# Altium footprint library nail_detector1.PcbLib: 33 footprints (part 3 of 3)
Each footprint in its own frame and in the unit in brackets; x right, y up, seen from the top. Pads: shape width x height; smd on the part's side, far side on the other; paste and mask are expansions set on the pad; w line width, h text height; cw(c..) or ccw(c..) is an arc to the next point about the centre after c.
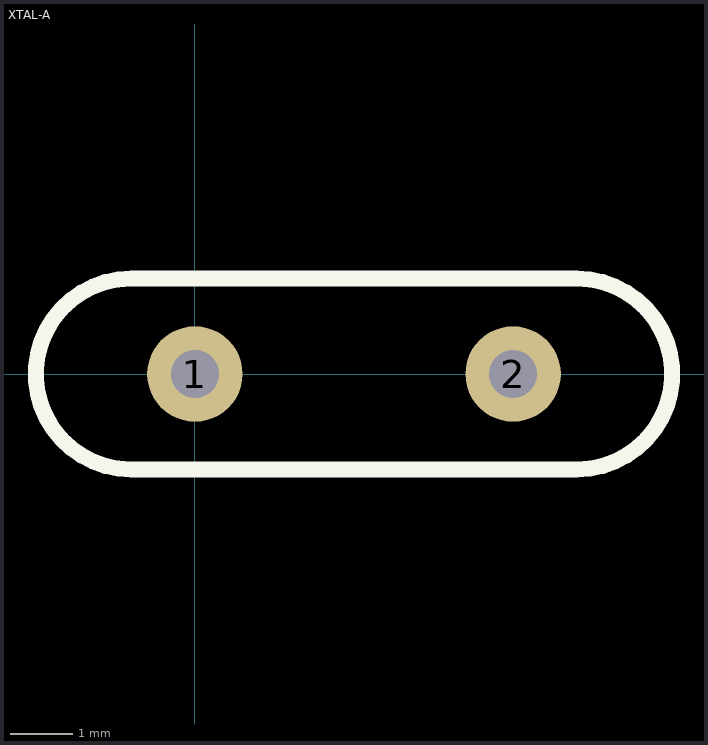
[diagram p2: the footprint, top view; thin cyan lines are the x and y axes]

## XTAL-A [mil]
height 62.99
pads (2):
  round 60 hole 30: 1(0,0) 2(200,0)
Top Overlay:
  lines w10: -40,-60 cw(c-40,0) -40,60 240,60 cw(c240,0) 240,-60 -40,-60
3D body: height 142.73, standoff -77.74, extent -114.86,-95 325,88.96